# Altium schematic symbol library COMMON.SchLib: 15 symbols
Pins are listed as number, name and electrical type; pins without a type are passive.

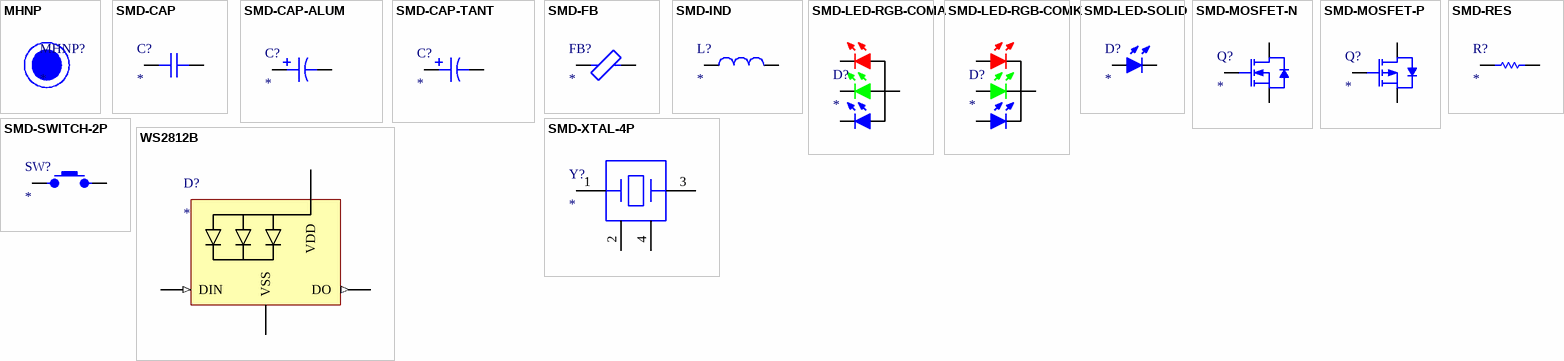
[diagram p0: symbols MHNP to WS2812B]

## MHNP
designator MHNP?
Mounting hole non-plated
footprint MHNP-M2 (Mounting hole non-plated M2)
footprint MHNP-M2.5 (Mounting hole non-plated M2.5)
footprint MHNP-M3 (Mounting hole non-plated M3)
footprint MHNP-M4 (Mounting hole non-plated M4)
footprint MHNP-M5 (Mounting hole non-plated M5)
footprint MHNP-M6 (Mounting hole non-plated M6)

## SMD-CAP
designator C?
SMD Capacitor
footprint CAPC-0402
footprint CAPC-0603
footprint CAPC-0805
footprint CAPC-1206
footprint CAPC-1210
pins: 1, 2

## SMD-CAP-ALUM
designator C?
SMD Aluminum Electrolytic Capacitor
footprint CAPAE-B (Aluminum Electrolytic Capacitors Size B - øD4)
footprint CAPAE-C (Aluminum Electrolytic Capacitors Size C - øD5)
footprint CAPAE-D (Aluminum Electrolytic Capacitors Size D - øD6.3)
footprint CAPAE-D8 (Aluminum Electrolytic Capacitors Size D8 - øD6.3)
footprint CAPAE-E (Aluminum Electrolytic Capacitors Size E - øD8)
footprint CAPAE-F (Aluminum Electrolytic Capacitors Size F - øD8)
footprint CAPAE-G (Aluminum Electrolytic Capacitors Size G - øD10)
footprint CAPAE-H13 (Aluminum Electrolytic Capacitors Size H - øD12.5)
pins: 1, 2

## SMD-CAP-TANT
designator C?
SMD Tantalum Electrolytic Capacitor
footprint CASE-A-3216-18
footprint CASE-B-3528-21
footprint CASE-C-6032-25
footprint CASE-D-7343-31
footprint CASE-E-7360-38
footprint CASE-M-3528-15
footprint CASE-P-2012-15
footprint CASE-R-2012-12
footprint CASE-S-3216-12
footprint CASE-T-3528-12
footprint CASE-U-6032-15
footprint CASE-V-7343-20
footprint CASE-W-7343-15
footprint CASE-X-7343-43
pins: 1, 2

## SMD-FB
designator FB?
SMD Ferrite Bead
footprint FB-0402
footprint FB-0603
footprint FB-0805
pins: 1, 2

## SMD-IND
designator L?
SMD Inductor
footprint INDC-0402
footprint INDC-0603
footprint INDC-0805
footprint CD43
footprint IND-12x12
pins: 1, 2

## SMD-LED-RGB-COMA
designator D?
pins: 1, 2, 3, 4

## SMD-LED-RGB-COMK
designator D?
pins: 1, 2, 3, 4

## SMD-LED-SOLID
designator D?
footprint LED0402-AMBER
footprint LED0402-GREEN
footprint LED0402-BLUE
footprint LED0402-RED
footprint LED0402-YELLOW
footprint LED0603-AMBER
footprint LED0603-GREEN
footprint LED0603-BLUE
footprint LED0603-RED
footprint LED0603-YELLOW
footprint LED0805-GREEN
footprint LED0805-AMBER
footprint LED0805-BLUE
footprint LED0805-RED
footprint LED0805-YELLOW
pins: 1, 2

## SMD-MOSFET-N
designator Q?
SMD MOSFET N Channel
footprint SOT-23-3
pins: 1 GATE, 2 SOURCE, 3 DRAIN

## SMD-MOSFET-P
designator Q?
SMD MOSFET P Channel
footprint SOT-23-3
pins: 1 GATE, 2 SOURCE, 3 DRAIN

## SMD-RES
designator R?
SMD Resistor
footprint RESC-0402
footprint RESC-0603
footprint RESC-0805
footprint RESC-1206
footprint RESC-1218
footprint RESC-2010
footprint RESC-2012
footprint RESC-2512
pins: 1, 2

## SMD-SWITCH-2P
designator SW?
SMD Tactile Switch 2 Pins
footprint SW-6x3.5
pins: 1, 2

## SMD-XTAL-4P
designator Y?
SMD Crystal 4-Pins
footprint SMD2520-4P
footprint SMD3225-4P
pins: 1 XIN, 2 GND, 3 XOUT, 4 GND

## WS2812B
designator D?
footprint WS2812B-5050
pins: 1 VDD, 2 DO (out), 3 VSS, 4 DIN (in)